# EAGLE library part NRF24L01 (library Jordan Boards)
REMEMBER THIS SHIT IS 3.3V MAX!
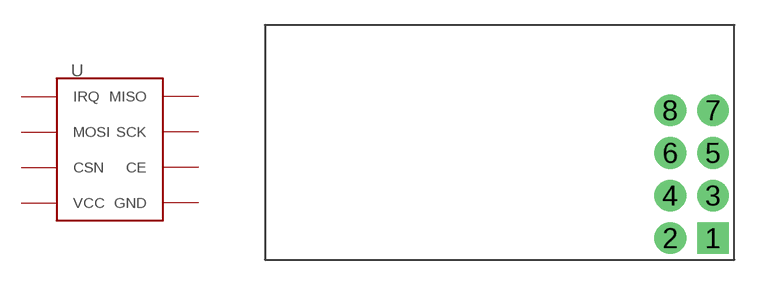
[diagram p2: symbol with the pads of NRF24L01; footprint NRF24L01]

Designator prefix -

## NRF24L01  [NRF24L01]
1  GND
2  VCC
3  CE
4  CSN
5  SCK
6  MOSI
7  MISO
8  IRQ

## Footprint NRF24L01 (pad centres in mm)
drill 1.016 pad 1.88 square: 1 1.27,-1.27
drill 1.016 pad 1.88: 2 -1.27,-1.27; 3 1.27,1.27; 4 -1.27,1.27; 5 1.27,3.81; 6 -1.27,3.81; 7 1.27,6.35; 8 -1.27,6.35